# EAGLE library part J-6 (library conn)
6 pin connector
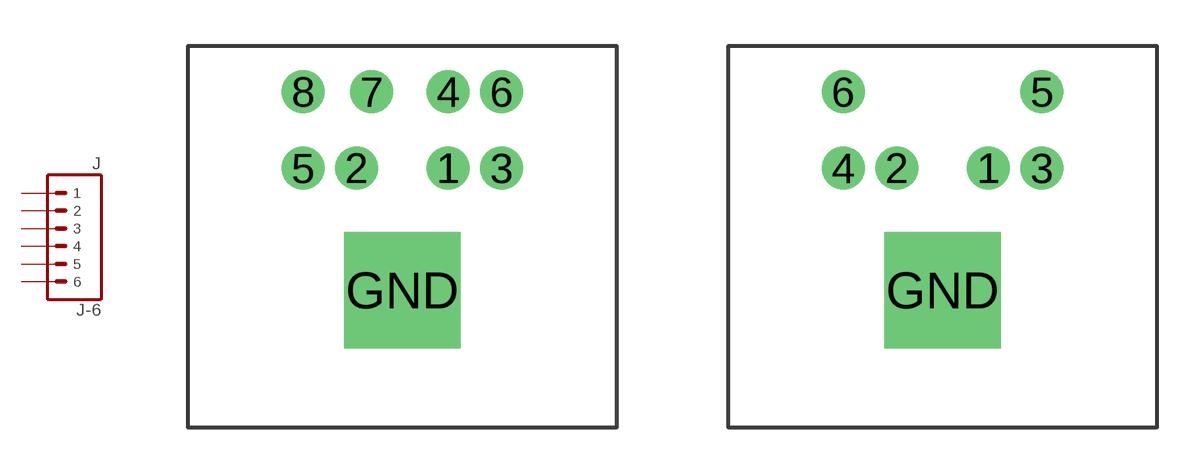
[diagram p0: symbol with the pads of J-8-MINIDIN-KMD11; footprints J-8-MINIDIN-KMD11, J-6-MINIDIN-KMD11]

Designator prefix J

## J-6-MINIDIN8  [J-8-MINIDIN-KMD11]
1  1  pas
2  2  pas
3  3  pas
5  4  pas
6  5  pas
8  6  pas

## J-6-MINIDIN  [J-6-MINIDIN-KMD11]
1  1  pas
2  2  pas
3  3  pas
4  4  pas
5  5  pas
6  6  pas

## J-6-2510  [J-6-2510]
Pads as for J-6-MINIDIN-KMD11

## J-6-RJ12-LP  [J-8-RJ12-TE5555163]
Pads as for J-6-MINIDIN-KMD11

## J-6-100  [J-6-100]
Pads as for J-6-MINIDIN-KMD11

## J-6  [J-6-100-2X3]
Pads as for J-6-MINIDIN-KMD11

## Footprint J-8-MINIDIN-KMD11 (pad centres in mm)
Mini-DIN Socket. Pads are numbered corresponding to Mini-DIN 8 connector pins.
drill 0.9: 1 1.5,0; 2 -1.5,0; 3 3.25,0; 4 1.5,2.5; 5 -3.25,0; 6 3.25,2.5; 7 -1,2.5; 8 -3.25,2.5
drill 2.8 pad 3.81 square: GND 0,-4

## Footprint J-6-MINIDIN-KMD11 (pad centres in mm)
drill 0.9: 1 1.5,0; 2 -1.5,0; 3 3.25,0; 4 -3.25,0; 5 3.25,2.5; 6 -3.25,2.5
drill 2.8 pad 3.81 square: GND 0,-4

## Footprint J-6-2510 (pad centres in mm)
drill 1.016 pad 1.88 square: 1 0,-6.35
drill 1.016 pad 1.88: 2 0,-3.81; 3 0,-1.27; 4 0,1.27; 5 0,3.81; 6 0,6.35

## Footprint J-8-RJ12-TE5555163 (pad centres in mm)
RJ12 (RJ11) 6p6c connector, low profile. e.g. TE 5555163-1 <http://www.digikey.ca/product-detail/en/5555163-1/A31420-ND/769564>
drill 1.016 pad 1.88: 1 -3.175,7.62; 2 -1.905,5.08; 3 -0.635,7.62; 4 0.635,5.08; 5 1.905,7.62; 6 3.175,5.08
hole 3.251 at -5.08,-1.27
hole 3.251 at 5.08,-1.27

## Footprint J-6-100 (pad centres in mm)
drill 1.016 pad 1.88 square: 1 -6.35,0
drill 1.016 pad 1.88: 2 -3.81,0; 3 -1.27,0; 4 1.27,0; 5 3.81,0; 6 6.35,0

## Footprint J-6-100-2X3 (pad centres in mm)
drill 1.016 pad 1.88 square: 1 -2.54,-1.27
drill 1.016 pad 1.88: 2 -2.54,1.27; 3 0,-1.27; 4 0,1.27; 5 2.54,-1.27; 6 2.54,1.27